# EAGLE library part ATTINY13A-SSUR (library basisplatine_lib)
MICROCHIP - ATTINY13A-SSUR - MCU, 8BIT, ATTINY, 20MHZ, SOIC-8 Source: Datasheet <https://componentsearchengine.com/Datasheets/1/ATTINY13A-SSUR.pdf>
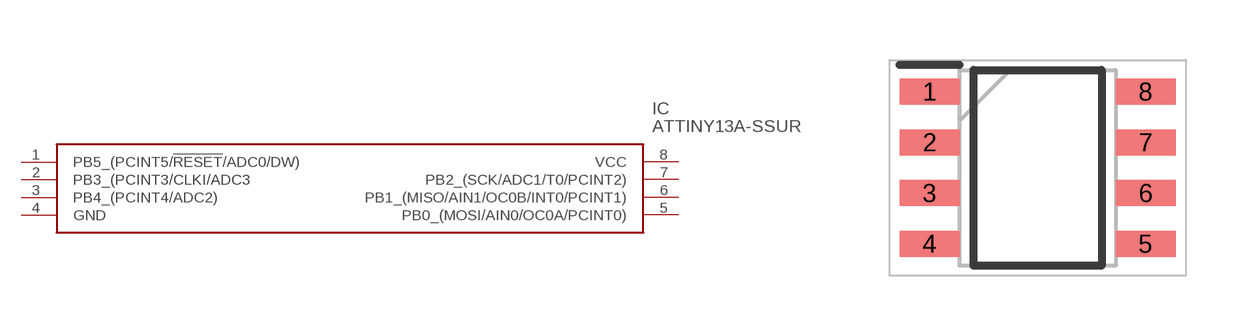
[diagram p1: symbol with the pads of SOIC127P600X175-8N; footprint SOIC127P600X175-8N]

Designator prefix IC

## ATTINY13A-SSUR (DESCRIPTION: MICROCHIP - ATTINY13A-SSUR - MCU, 8BIT, ATTINY, 20MHZ, SOIC-8; HEIGHT: 1.75mm; MANUFACTURER_NAME: Microchip; MANUFACTURER_PART_NUMBER: ATTINY13A-SSUR; MOUSER_PART_NUMBER: 556-ATTINY13A-SSUR; MOUSER_PRICE-STOCK: https://www.mouser.com/Search/Refine.aspx?Keyword=556-ATTINY13A-SSUR)  [SOIC127P600X175-8N]
1  PB5_(PCINT5/!RESET!/ADC0/DW)
2  PB3_(PCINT3/CLKI/ADC3
3  PB4_(PCINT4/ADC2)
4  GND
5  PB0_(MOSI/AIN0/OC0A/PCINT0)
6  PB1_(MISO/AIN1/OC0B/INT0/PCINT1)
7  PB2_(SCK/ADC1/T0/PCINT2)
8  VCC

## Footprint SOIC127P600X175-8N (pad centres in mm)
8S1, 8-lead (0.150 Wide Body), Plastic Gull Wing Small Outline (JEDEC SOIC)
smd 1.5 x 0.65: 1 -2.7,1.905; 2 -2.7,0.635; 3 -2.7,-0.635; 4 -2.7,-1.905; 5 2.7,-1.905; 6 2.7,-0.635; 7 2.7,0.635; 8 2.7,1.905